# Altium integrated library Linear Technology Power Management Switching Regulator LTC1174-LTC3901.IntLib: 2647 symbols (part 225 of 364)
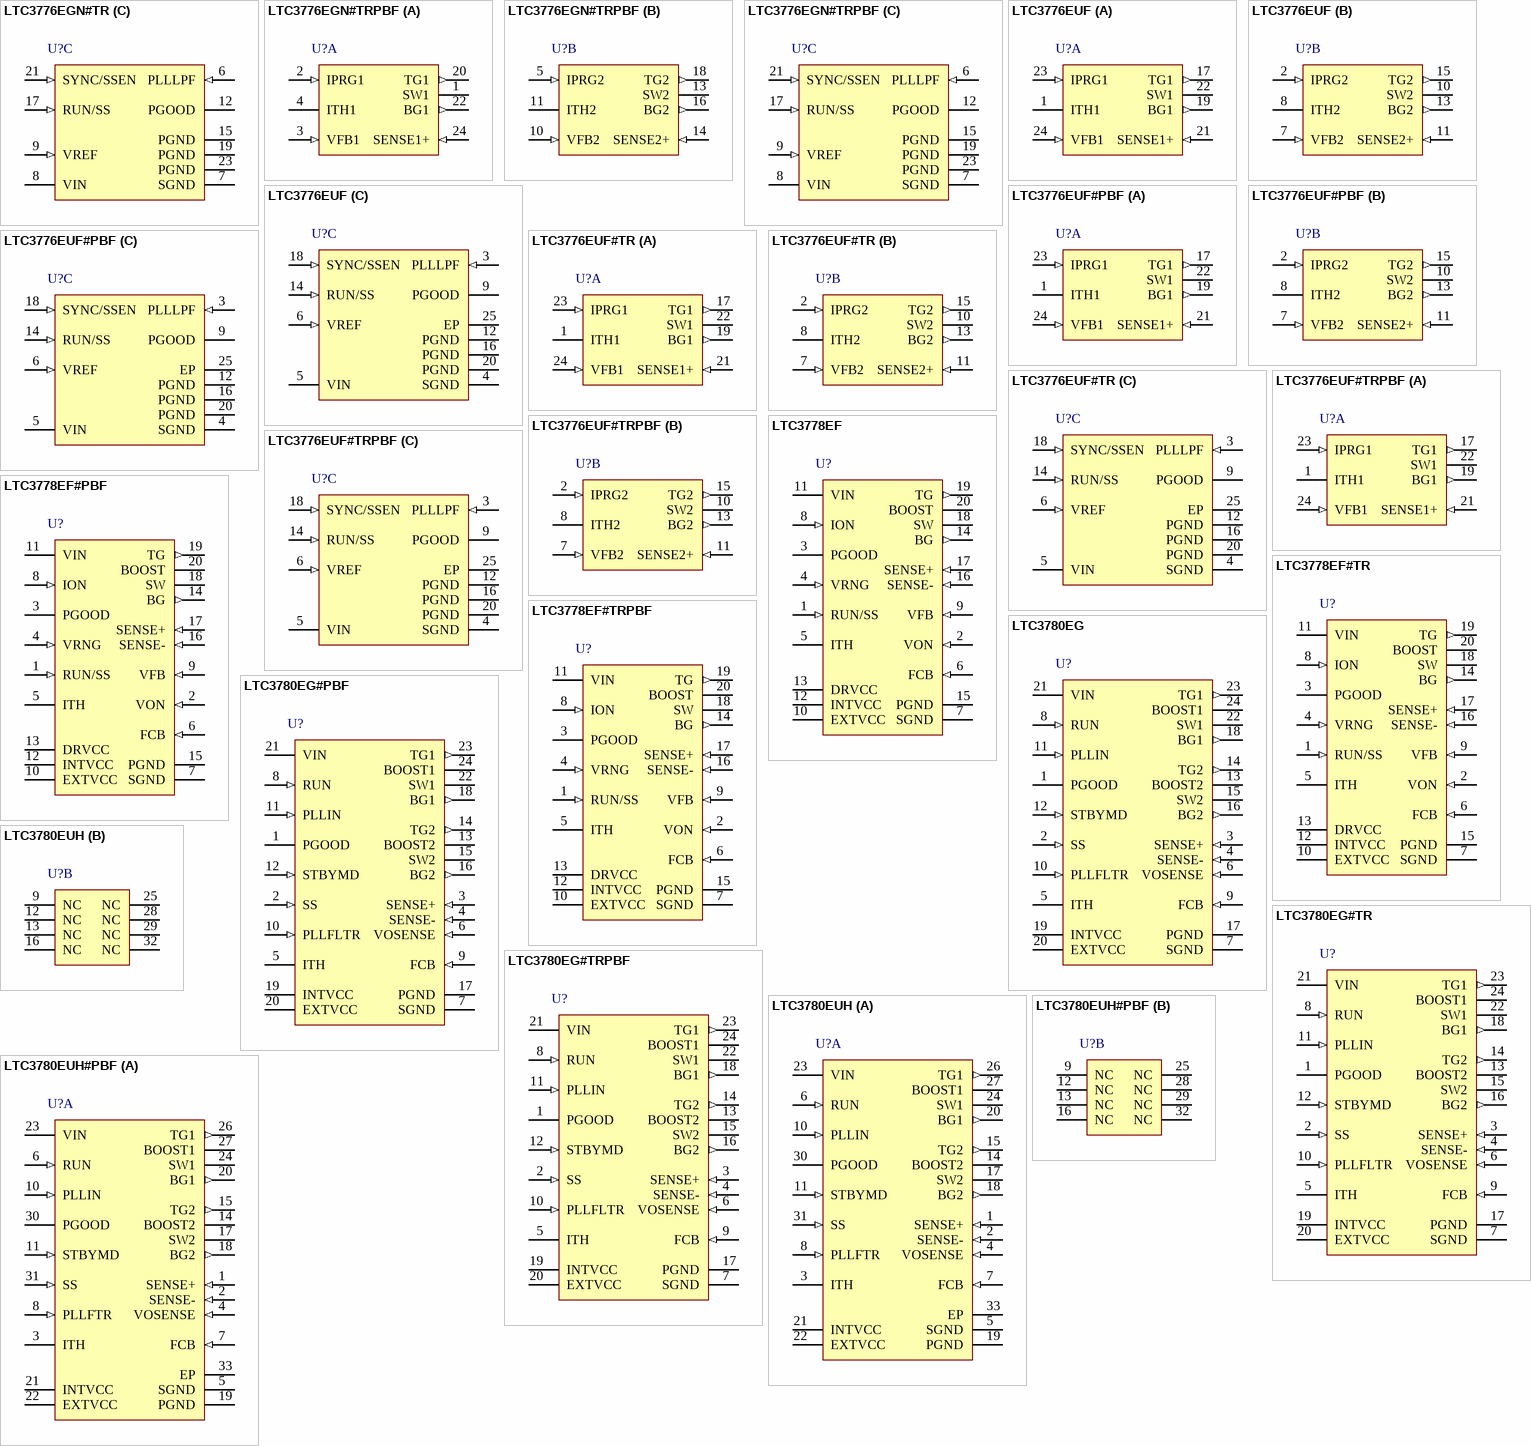
[diagram p331: symbols LTC3776EGN#TR to LTC3780EUH#PBF]

## LTC3776EGN#TR
designator U?
Dual 2-Phase, No Rsense Synchronous Controller for DDR/QDR Memory Termination, 24-pin SOP (GN-24), -40 to 85 degC, Tape and Reel; Manufacturer: Linear Technology; PartNumber: LTC3776EGN#TR; Frequency Sync Range: 250kHz - 850kHz; Number of Outputs: 2; DatasheetVersion: Rev. A; PackageVersion: Rev. B, 03/2012; PackageReference: GN24; PackageDescription: 24-Pin Plastic SSOP , Body 8.5 x 3.9 mm, Pitch 0.635 mm; Packing: Tape and Reel; RoHS: FALSE; Mounting Technology: Surface Mount; ComponentLink1Description: Manufacturer URL; ComponentLink1URL: http://www.linear.com/; ComponentLink2Description: Datasheet; ComponentLink2URL: http://cds.linear.com/docs/en/datasheet/3776fa.pdf; ComponentLink3Description: Package Specification; ComponentLink3URL: http://cds.linear.com/docs/en/packaging/05081641_B_GN24.pdf
footprint LT-GN-24_N (SOP, 24-Leads, Body 8.7x4mm, Pitch 0.635mm, IPC Medium Density)
footprint LT-GN-24_L (SOP, 24-Leads, Body 8.7x4mm, Pitch 0.635mm, IPC High Density)
footprint LT-GN-24_M (SOP, 24-Leads, Body 8.7x4mm, Pitch 0.635mm, IPC Low Density)
part A pins: 1 SW1 "Switch Node Connection to Inductor. Also the negative input to differential peak current comparator and an input to the reverse current comparator. Normally connected to the drain of the external P-channel MOSFETs, the drain (See Datasheet)", 2 IPRG1 (in) "Three-State Pins to Select Maximum Peak Sense Voltage Threshold. These pins select the maximum allowed voltage drop between the SENSE+ and SW pins (i.e., the maximum allowed drop across the external P-channel MOSFET) for (See Datasheet)", 3 VFB1 (in) "Feedback Pins. Receives the remotely sensed feedback voltage for its controller.", 4 ITH1 "Current Threshold and Error Amplifier Compensation Point. Nominal operating range on these pins is from 0.7V to 2V. The voltage on these pins determines the threshold of the main current comparator.", 20 TG1 (out) "Top (PMOS) Gate Drive Output. These pins drive the gates of the external P-channel MOSFETs. These pins have an output swing from PGND to SENSE+.", 22 BG1 (out) "Bottom (NMOS) Gate Drive Output. These pins drive the gates of the external Nchannel MOSFETs. These pins have an output swing from PGND to SENSE+.", 24 SENSE1+ (in) "Positive Input to Differential Current Comparator. Also powers the gate drivers. Normally connected to the source of the external P-channel MOSFET."
part B pins: 5 IPRG2 (in) "Three-State Pins to Select Maximum Peak Sense Voltage Threshold. These pins select the maximum allowed voltage drop between the SENSE+ and SW pins (i.e., the maximum allowed drop across the external P-channel MOSFET) for (See Datasheet)", 10 VFB2 (in) "Feedback Pins. Receives the remotely sensed feedback voltage for its controller.", 11 ITH2 "Current Threshold and Error Amplifier Compensation Point. Nominal operating range on these pins is from 0.7V to 2V. The voltage on these pins determines the threshold of the main current comparator.", 13 SW2 "Switch Node Connection to Inductor. Also the negative input to differential peak current comparator and an input to the reverse current comparator. Normally connected to the drain of the external P-channel MOSFETs, the drain (See Datasheet)", 14 SENSE2+ (in) "Positive Input to Differential Current Comparator. Also powers the gate drivers. Normally connected to the source of the external P-channel MOSFET.", 16 BG2 (out) "Bottom (NMOS) Gate Drive Output. These pins drive the gates of the external Nchannel MOSFETs. These pins have an output swing from PGND to SENSE+.", 18 TG2 (out) "Top (PMOS) Gate Drive Output. These pins drive the gates of the external P-channel MOSFETs. These pins have an output swing from PGND to SENSE+."
part C pins: 6 PLLLPF (in) "Frequency Set/PLL Lowpass Filter. When synchronizing to an external clock, this pin serves as the lowpass filter point for the phase-locked loop. Normally a series RC is connected between this pin and ground. When SYNC/SSEN (See Datasheet)", 7 SGND (power) "Small-Signal Ground. This pin serves as the ground connection for most internal circuits.", 8 VIN (power) "Chip Signal Power Supply. This pin powers the entire chip except for the gate drivers. Externally filtering this pin with a lowpass RC network (e.g., R = 10ohm, C = 1uF) is suggested to minimize noise pickup, especially in (See Datasheet)", 9 VREF (in) "Reference voltage input for channel 2. The positive input of the error amplifier for channel 2 senses one half of the voltage on this pin through an internal resistor divider.", 12 PGOOD (oc) "Power Good Output Voltage Monitor Open-Drain Logic Output. This pin is pulled to ground when the voltage on either feedback pin (VFB1, VFB2) is not within +/-13.3% of its nominal set point.", 15 PGND (power) "Power Ground. These pins serve as the ground connection for the gate drivers and the negative input to the reverse current comparators. The Exposed Pad (UF package) must be soldered to PCB ground.", 17 RUN/SS (in) "Run Control Input and Optional External Soft-Start Input. Forcing this pin below 0.65V shuts down the chip (both channels). Driving this pin to VIN or releasing this pin enables the chip, using the chip’s interna(See Datasheet)", 19 PGND (power) "Power Ground. These pins serve as the ground connection for the gate drivers and the negative input to the reverse current comparators. The Exposed Pad (UF package) must be soldered to PCB ground.", 21 SYNC/SSEN (in) "Synchronization Input and Spread Spectrum Modulation Enable Input. To synchronize the LTC3776’s switching frequency to an external clock using the phase-locked loop, apply a CMOS compatible clock with a frequency betwee(See Datasheet)", 23 PGND (power) "Power Ground. These pins serve as the ground connection for the gate drivers and the negative input to the reverse current comparators. The Exposed Pad (UF package) must be soldered to PCB ground."